# Altium schematic symbol library U.FL-R-SMT(10).Schlib: 1 symbol
Pins are listed as number, name and electrical type; pins without a type are passive.

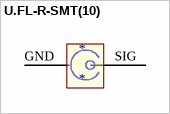
[diagram p0: symbol U.FL-R-SMT(10)]

## U.FL-R-SMT(10)
designator *
CONN SM uFL
pins: GND, SIG